# EAGLE library part N42G-08 (library con-malina)
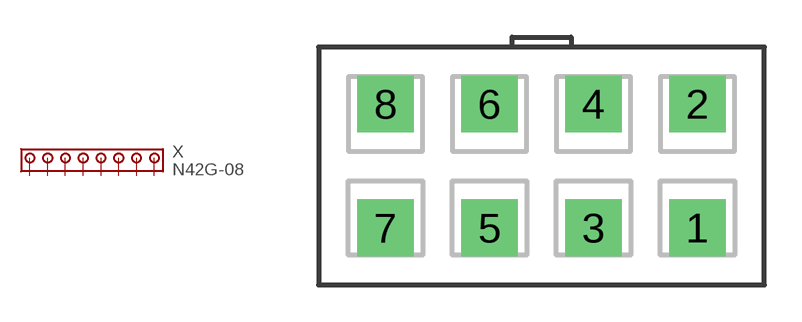
[diagram p3: symbol with the pads of N42G-08-VPS; footprint N42G-08-VPS]

Designator prefix X

## N42G-08-VPS  [N42G-08-VPS]
1  1  pas
2  2  pas
3  3  pas
4  4  pas
5  5  pas
6  6  pas
7  7  pas
8  8  pas

## Footprint N42G-08-VPS (pad centres in mm)
drill 1.5 pad 2.3 square: 1 6.3,-2.5; 2 6.3,2.5; 3 2.1,-2.5; 4 2.1,2.5; 5 -2.1,-2.5; 6 -2.1,2.5; 7 -6.3,-2.5; 8 -6.3,2.5